# EAGLE library part CCG30-24-05S (library CCG15-24-05S)
Check availability <https://pricing.snapeda.com/parts/CCG152405S/TDK-Lambda%20Americas%20Inc./view-part?ref=eda>
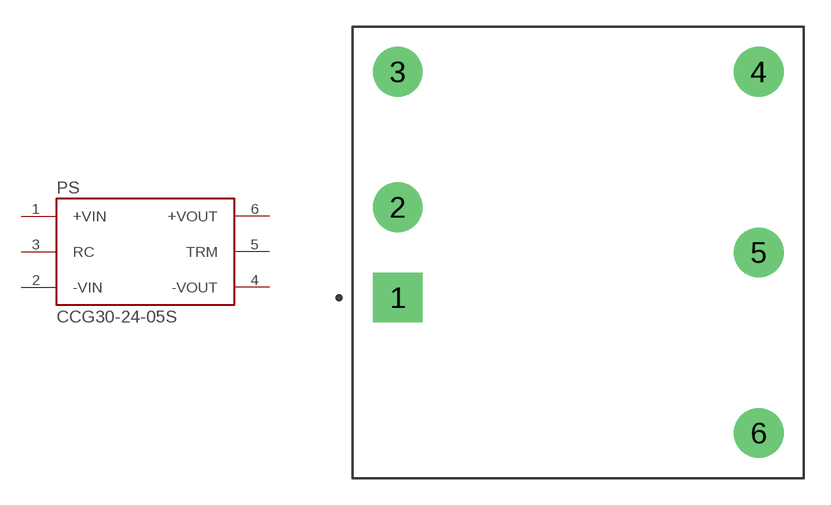
[diagram p1: symbol with the pads of CONV_CCG15-24-05S; footprint CONV_CCG15-24-05S]

Designator prefix PS

## CCG30-24-05S (AVAILABILITY: Not in stock; DESCRIPTION: Isolated Module DC DC Converter 1 Output 5V - - 3A 9V - 36V Input; MF: TDK-Lambda Americas Inc.; MP: CCG152405S; PACKAGE: DIP-6 TDK-Lambda; PRICE: None)  [CONV_CCG15-24-05S]
1  +VIN  in
2  -VIN  in
3  RC  pas
4  -VOUT  out
5  TRM  pas
6  +VOUT  out

## Footprint CONV_CCG15-24-05S (pad centres in mm)
drill 1.5 pad 2.8 square: 1 -10.16,-2.54
drill 1.5 pad 2.8: 2 -10.16,2.54; 3 -10.16,10.16; 4 10.16,10.16; 5 10.16,0; 6 10.16,-10.16